# Altium footprint library footprints.PcbLib: 154 footprints (part 6 of 10)
Each footprint in its own frame and in the unit in brackets; x right, y up, seen from the top. Pads: shape width x height; smd on the part's side, far side on the other; paste and mask are expansions set on the pad; w line width, h text height; cw(c..) or ccw(c..) is an arc to the next point about the centre after c.
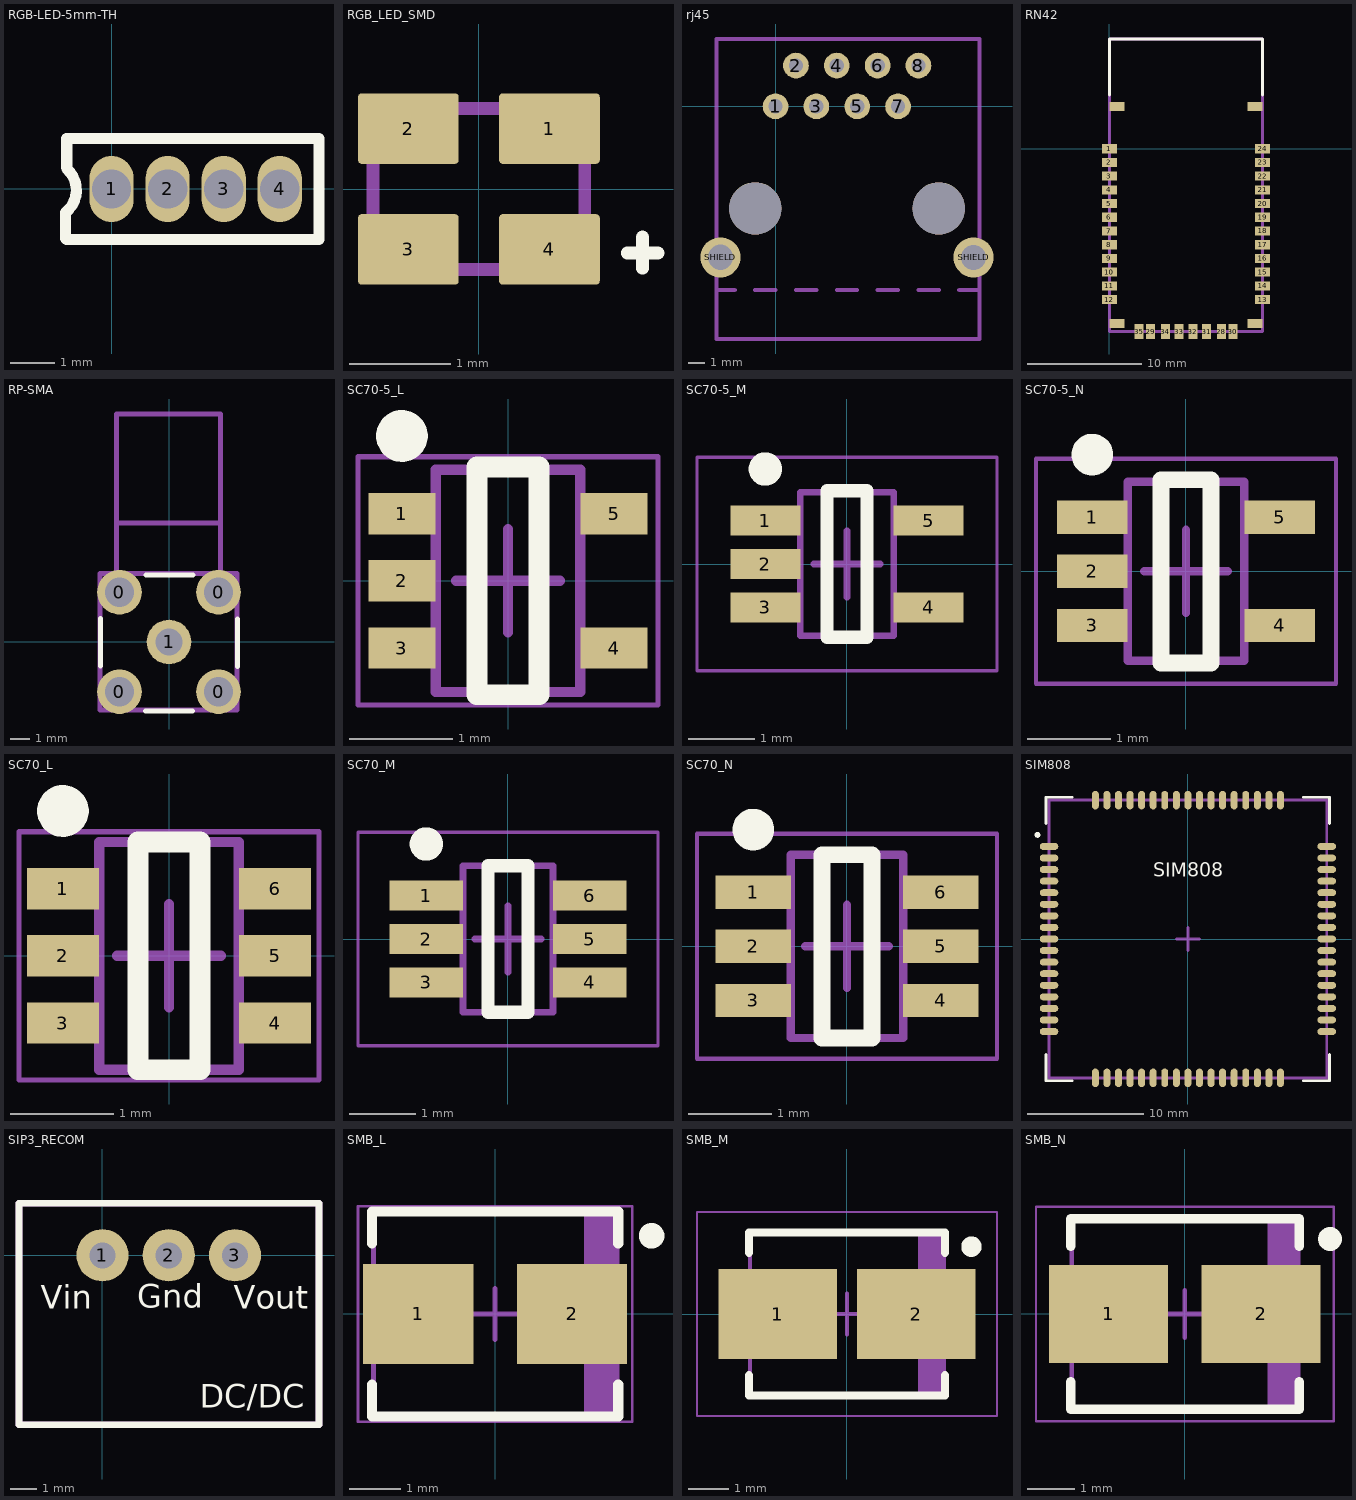
[diagram p5: the footprints below, top view; thin cyan lines are the x and y axes]

## RGB-LED-5mm-TH [mm]
pads (4):
  oval 1x1.5 hole 0.889: 1(0,0) 2(1.27,0) 3(2.54,0) 4(3.81,0)
Top Overlay:
  lines w0.254: -1.016,0.487 -1.016,1.143 4.699,1.143 4.699,-1.143 -1.016,-1.143 -1.045,-1.114 -1.045,-0.536 ccw(c-1.448,-0.025) -1.013,0.458
3D body: height 13.68, standoff -19.42, extent -0.566,-2.979 4.884,2.921

## RGB_LED_SMD [mm]
pads (4):
  rrect10% 1x0.7 smd: 1(0.7,0.6) 2(-0.7,0.6) 3(-0.7,-0.6) 4(0.7,-0.6)
Top Overlay:
  lines w0.127: 1.473,-0.635 1.778,-0.635 ; 1.625,-0.787 1.625,-0.475
Mechanical 15:
  lines w0.127: -1.05,-0.8 1.05,-0.8 1.05,0.8 -1.05,0.8 -1.05,-0.8
3D body: height 0.55, standoff 0, extent -1.05,-0.8 1.05,0.8

## rj45 [mm]
pads (12):
  round 1.6 hole 0.89: 1(0,0) 2(1.27,2.54) 3(2.54,0) 4(3.81,2.54) 5(5.08,0) 6(6.35,2.54) 7(7.62,0) 8(8.89,2.54)
  round 2.5 hole 1.575: SHIELD(-3.429,-9.398)
  round 2.5 hole 1.57: SHIELD(12.319,-9.398)
  round 3.25 hole 3.25: ""(-1.27,-6.35) ""(10.16,-6.35)
Mechanical 13:
  lines w0.254: -3.683,-11.43 -2.54,-11.43 ; -1.27,-11.43 0,-11.43 ; 1.27,-11.43 2.54,-11.43 ; 3.81,-11.43 5.08,-11.43 ; 6.35,-11.43 7.62,-11.43 ; 8.89,-11.43 10.16,-11.43 ; 11.43,-11.43 12.7,-11.43 ; -3.683,-14.478 12.7,-14.478 12.7,4.191 -3.683,4.191 -3.683,-14.478
3D body: height 12.57, standoff 0, extent -3.683,-14.478 12.7,4.191

## RN42 [mm]
pads (36):
  rect 1.3x0.8 smd: 1(0,0) 2(0,-1.2) 3(0,-2.4) 4(0,-3.6) 5(0,-4.8) 6(0,-6) 7(0,-7.2) 8(0,-8.4) 9(0,-9.6) 10(0,-10.8) 11(0,-12) 12(0,-13.2) 13(13.4,-13.2) 14(13.4,-12) 15(13.4,-10.8) 16(13.4,-9.6) 17(13.4,-8.4) 18(13.4,-7.2) 19(13.4,-6) 20(13.4,-4.8) 21(13.4,-3.6) 22(13.4,-2.4) 23(13.4,-1.2) 24(13.4,0) ""(0.65,-15.3) ""(0.65,3.7) ""(12.75,-15.3) ""(12.75,3.7)
  rect 0.8x1.3 smd: 28(9.8,-16) 29(3.6,-16) 30(10.8,-16) 31(8.5,-16) 32(7.3,-16) 33(6.1,-16) 34(4.9,-16) 35(2.6,-16)
Top Overlay:
  lines w0.254: 0,4.7 0,9.6 13.4,9.6 13.4,4.7
Mechanical 13:
  lines w0.254: 0,-16 0,9.6 13.4,9.6 13.4,-16 0,-16
3D body: height 2.4, standoff -0.04, extent 0.199,-16.051 13.201,10.85

## RP-SMA [mil] "RP-SMA"
pads (5):
  round 90 hole 59: 0(-100,-100.5) 0(-100,100.5) 0(100,-100.5) 0(100,100.5)
  round 90 hole 55: 1(0,0)
Top Overlay:
  lines w10: -138,-48.5 -138,47.5 ; -48,-139.5 48,-139.5 ; -47,135.5 49,135.5 ; 138,-49.5 138,46.5
Mechanical 13:
  lines w10: -106,138.5 -106,240.5 ; 104,138.5 104,240.5 ; -106,240.5 104,240.5 ; -106,240.5 -106,460.5 104,460.5 104,240.5 ; -139,-137.5 -139,138.5 137,138.5 137,-137.5 -139,-137.5
3D body: height 393.31, standoff -150, extent -137.79,-137.79 137.8,433.08

## SC70-5_L [mm] "SOT23, 5-Leads, Body 2.00x2.10mm, Pitch 0.65mm, IPC High Density"
height 1.1
pads (5):
  rect 0.65x0.4 smd: 1(-1.025,0.65) 2(-1.025,0) 3(-1.025,-0.65) 4(1.025,-0.65) 5(1.025,0.65)
Top Overlay:
  circle w0.25: c-1.025,1.4 r0.125
  lines w0.2: -0.3,-1.1 0.3,-1.1 0.3,1.1 -0.3,1.1 -0.3,-1.1
Mechanical 13:
  lines w0.1: -0.7,-1.075 -0.7,1.075 0.7,1.075 0.7,-1.075 -0.7,-1.075
Mechanical 15:
  lines w0.05: -1.45,-1.2 -1.45,1.2 1.45,1.2 1.45,-1.2 -1.45,-1.2
  lines w0.1: -0.5,0 0.5,0 ; 0,-0.5 0,0.5
3D body: height 1.1, standoff 0.1, extent -0.7,-1.075 0.7,1.075

## SC70-5_M [mm] "SOT23, 5-Leads, Body 2.00x2.10mm, Pitch 0.65mm, IPC Low Density"
height 1.1
pads (5):
  rect 1.05x0.45 smd: 1(-1.225,0.65) 2(-1.225,0) 3(-1.225,-0.65) 4(1.225,-0.65) 5(1.225,0.65)
Top Overlay:
  circle w0.25: c-1.225,1.425 r0.125
  lines w0.2: -0.3,-1.1 -0.3,1.1 0.3,1.1 0.3,-1.1 -0.3,-1.1
Mechanical 13:
  lines w0.1: -0.7,-1.075 0.7,-1.075 0.7,1.075 -0.7,1.075 -0.7,-1.075
Mechanical 15:
  lines w0.05: -2.25,-1.6 2.25,-1.6 2.25,1.6 -2.25,1.6 -2.25,-1.6
  lines w0.1: -0.5,0 0.5,0 ; 0,-0.5 0,0.5
3D body: height 1.1, standoff 0.1, extent -0.7,-1.075 0.7,1.075

## SC70-5_N [mm] "SOT23, 5-Leads, Body 2.00x2.10mm, Pitch 0.65mm, IPC Medium Density"
height 1.1
pads (5):
  rect 0.85x0.4 smd: 1(-1.125,0.65) 2(-1.125,0) 3(-1.125,-0.65) 4(1.125,-0.65) 5(1.125,0.65)
Top Overlay:
  circle w0.25: c-1.125,1.4 r0.125
  lines w0.2: -0.3,-1.1 -0.3,1.1 0.3,1.1 0.3,-1.1 -0.3,-1.1
Mechanical 13:
  lines w0.1: -0.7,-1.075 0.7,-1.075 0.7,1.075 -0.7,1.075 -0.7,-1.075
Mechanical 15:
  lines w0.05: -1.8,-1.35 1.8,-1.35 1.8,1.35 -1.8,1.35 -1.8,-1.35
  lines w0.1: -0.5,0 0.5,0 ; 0,-0.5 0,0.5
3D body: height 1.1, standoff 0.1, extent -0.7,-1.075 0.7,1.075

## SC70_L [mm] "SOT23, 6-Leads, Body 2.00x2.10mm, Pitch 0.65mm, IPC High Density"
height 1.1
pads (6):
  rect 0.7x0.4 smd: 1(-1.025,0.65) 2(-1.025,0) 3(-1.025,-0.65) 4(1.025,-0.65) 5(1.025,0) 6(1.025,0.65)
Top Overlay:
  circle w0.25: c-1.025,1.4 r0.125
  lines w0.2: -0.3,-1.1 -0.3,1.1 0.3,1.1 0.3,-1.1 -0.3,-1.1
Mechanical 13:
  lines w0.1: -0.675,-1.1 0.675,-1.1 0.675,1.1 -0.675,1.1 -0.675,-1.1
Mechanical 15:
  lines w0.05: -1.45,-1.2 1.45,-1.2 1.45,1.2 -1.45,1.2 -1.45,-1.2
  lines w0.1: -0.5,0 0.5,0 ; 0,-0.5 0,0.5
3D body: height 1.1, standoff 0.1, extent -0.675,-1.1 0.675,1.1

## SC70_M [mm] "SOT23, 6-Leads, Body 2.00x2.10mm, Pitch 0.65mm, IPC Low Density"
height 1.1
pads (6):
  rect 1.1x0.45 smd: 1(-1.225,0.65) 2(-1.225,0) 3(-1.225,-0.65) 4(1.225,-0.65) 5(1.225,0) 6(1.225,0.65)
Top Overlay:
  circle w0.25: c-1.225,1.425 r0.125
  lines w0.2: -0.3,-1.1 -0.3,1.1 0.3,1.1 0.3,-1.1 -0.3,-1.1
Mechanical 13:
  lines w0.1: -0.675,-1.1 0.675,-1.1 0.675,1.1 -0.675,1.1 -0.675,-1.1
Mechanical 15:
  lines w0.05: -2.25,-1.6 2.25,-1.6 2.25,1.6 -2.25,1.6 -2.25,-1.6
  lines w0.1: -0.5,0 0.5,0 ; 0,-0.5 0,0.5
3D body: height 1.1, standoff 0.1, extent -0.675,-1.1 0.675,1.1

## SC70_N [mm] "SOT23, 6-Leads, Body 2.00x2.10mm, Pitch 0.65mm, IPC Medium Density"
height 1.1
pads (6):
  rect 0.9x0.4 smd: 1(-1.125,0.65) 2(-1.125,0) 3(-1.125,-0.65) 4(1.125,-0.65) 5(1.125,0) 6(1.125,0.65)
Top Overlay:
  circle w0.25: c-1.125,1.4 r0.125
  lines w0.2: -0.3,-1.1 -0.3,1.1 0.3,1.1 0.3,-1.1 -0.3,-1.1
Mechanical 13:
  lines w0.1: -0.675,-1.1 0.675,-1.1 0.675,1.1 -0.675,1.1 -0.675,-1.1
Mechanical 15:
  lines w0.05: -1.8,-1.35 1.8,-1.35 1.8,1.35 -1.8,1.35 -1.8,-1.35
  lines w0.1: -0.5,0 0.5,0 ; 0,-0.5 0,0.5
3D body: height 1.1, standoff 0.1, extent -0.675,-1.1 0.675,1.1

## SIM808 [mm]
pads (68):
  oval 1.6x0.6 smd: 1(-12,8) 2(-12,7) 3(-12,6) 4(-12,5) 5(-12,4) 6(-12,3) 7(-12,2) 8(-12,1) 9(-12,0) 10(-12,-1) 11(-12,-2) 12(-12,-3) 13(-12,-4) 14(-12,-5) 15(-12,-6) 16(-12,-7) 17(-12,-8) 35(12,-8) 36(12,-7) 37(12,-6) 38(12,-5) 39(12,-4) 40(12,-3) 41(12,-2) 42(12,-1) 43(12,0) 44(12,1) 45(12,2) 46(12,3) 47(12,4) 48(12,5) 49(12,6) 50(12,7) 51(12,8)
  oval 0.6x1.6 smd: 18(-8,-12) 19(-7,-12) 20(-6,-12) 21(-5,-12) 22(-4,-12) 23(-3,-12) 24(-2,-12) 25(-1,-12) 26(0,-12) 27(1,-12) 28(2,-12) 29(3,-12) 30(4,-12) 31(5,-12) 32(6,-12) 33(7,-12) 34(8,-12) 52(8,12) 53(7,12) 54(6,12) 55(5,12) 56(4,12) 57(3,12) 58(2,12) 59(1,12) 60(0,12) 61(-1,12) 62(-2,12) 63(-3,12) 64(-4,12) 65(-5,12) 66(-6,12) 67(-7,12) 68(-8,12)
Top Overlay:
  circle w0.254: c-13,9 r0.127
  lines w0.254: -12.25,-10 -12.25,-12.25 -10,-12.25 ; -12.25,10 -12.25,12.25 -10,12.25 ; 10,-12.25 12.25,-12.25 12.25,-10 ; 10,12.25 12.25,12.25 12.25,10
  text "SIM808" at -3,5 h2.03
Mechanical 13:
  lines w0.254: -12,-12 -12,12 12,12 12,-12 -12,-12
Mechanical 15:
  lines w0.254: -1,0 1,0 ; 0,-1 0,1
3D body: height 1, standoff 0, extent -12,-12 12,12
3D body: height 2.6, standoff 1, extent -11,-11 11,11

## SIP3_RECOM [mm]
pads (3):
  round 2 hole 1: 1(0,0) 2(2.54,0) 3(5.08,0)
Top Overlay:
  lines w0.254: -3.2,-6.5 -3.2,2 8.3,2 8.3,-6.5 -3.2,-6.5
  text "Gnd" at 1.325,-2.325 h1.52
  text "Vout" at 5.025,-2.35 h1.52
  text "Vin" at -2.375,-2.35 h1.52
  text "DC/DC" at 3.725,-6.15 h1.52
Mechanical 13:
  lines w0.254: -3.2,-6.5 -3.2,2 8.3,2 8.3,-6.5 -3.2,-6.5
3D body: height 17.5, standoff 0, extent -3.2,-6.5 8.3,2

## SMB_L [mm] "Molded Diode, 2-Leads, Body 4,41x3,62mm, IPC High Density"
height 2.42
pads (2):
  rect 2.15x1.95 smd: 1(-1.5,0) 2(1.5,0)
Top Overlay:
  circle w0.25: c3.05,1.525 r0.125
  lines w0.2: -2.4,-1.375 -2.4,-2 2.4,-2 2.4,-1.375 ; -2.4,1.375 -2.4,2 2.4,2 2.4,1.375
Mechanical 13:
  rectangle: 1.736,-1.97 2.375,1.97
  lines w0.1: -2.375,-1.97 -2.375,1.97 2.375,1.97 2.375,-1.97 -2.375,-1.97
Mechanical 15:
  lines w0.05: -2.675,-2.1 -2.675,2.1 2.675,2.1 2.675,-2.1 -2.675,-2.1
  lines w0.1: -0.5,0 0.5,0 ; 0,-0.5 0,0.5
3D body: height 2.42, standoff 0, extent -2.375,-1.97 2.375,1.97

## SMB_M [mm] "Molded Diode, 2-Leads, Body 4,41x3,62mm, IPC Low Density"
height 2.42
pads (2):
  rect 2.9x2.2 smd: 1(-1.7,0) 2(1.7,0)
Top Overlay:
  circle w0.25: c3.05,1.65 r0.125
  lines w0.2: -2.4,-1.5 -2.4,-2 2.4,-2 2.4,-1.5 ; -2.4,1.5 -2.4,2 2.4,2 2.4,1.5
Mechanical 13:
  rectangle: 1.736,-1.97 2.375,1.97
  lines w0.1: -2.375,-1.97 2.375,-1.97 2.375,1.97 -2.375,1.97 -2.375,-1.97
Mechanical 15:
  lines w0.05: -3.675,-2.5 3.675,-2.5 3.675,2.5 -3.675,2.5 -3.675,-2.5
  lines w0.1: -0.5,0 0.5,0 ; 0,-0.5 0,0.5
3D body: height 2.42, standoff 0, extent -2.375,-1.97 2.375,1.97

## SMB_N [mm] "Molded Diode, 2-Leads, Body 4,41x3,62mm, IPC Medium Density"
height 2.42
pads (2):
  rect 2.5x2.05 smd: 1(-1.6,0) 2(1.6,0)
Top Overlay:
  circle w0.25: c3.05,1.575 r0.125
  lines w0.2: -2.4,-1.425 -2.4,-2 2.4,-2 2.4,-1.425 ; -2.4,1.425 -2.4,2 2.4,2 2.4,1.425
Mechanical 13:
  rectangle: 1.736,-1.97 2.375,1.97
  lines w0.1: -2.375,-1.97 -2.375,1.97 2.375,1.97 2.375,-1.97 -2.375,-1.97
Mechanical 15:
  lines w0.05: -3.125,-2.25 -3.125,2.25 3.125,2.25 3.125,-2.25 -3.125,-2.25
  lines w0.1: -0.5,0 0.5,0 ; 0,-0.5 0,0.5
3D body: height 2.42, standoff 0, extent -2.375,-1.97 2.375,1.97